# Altium integrated library ZH1.5.IntLib: 15 symbols
Pins are listed as number, name and electrical type; pins without a type are passive.

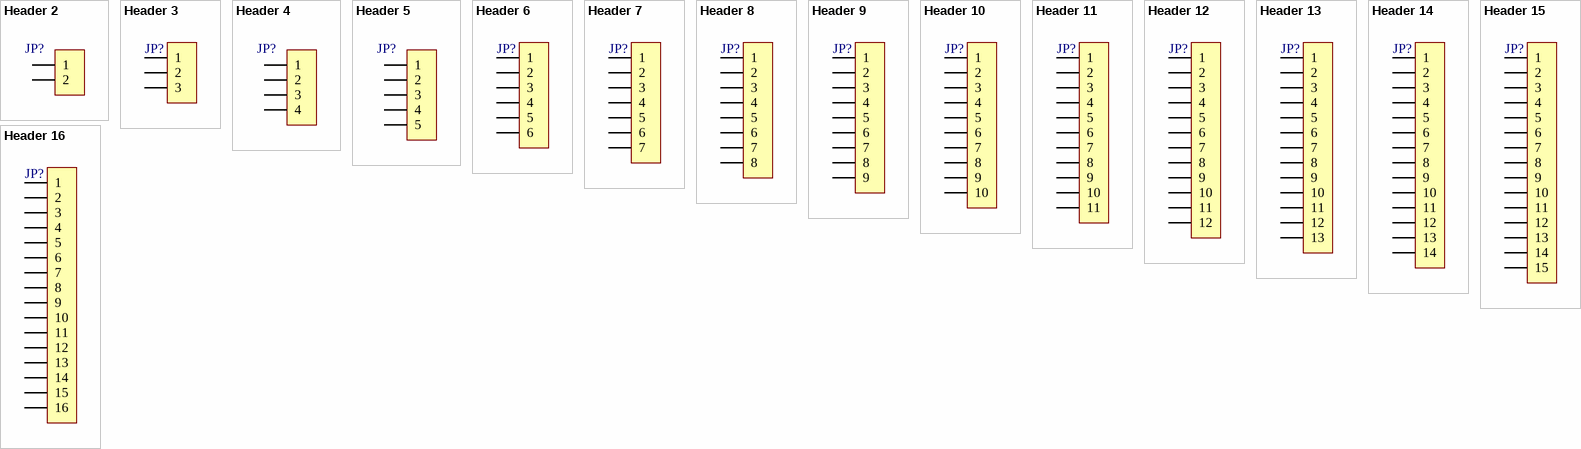
[diagram p0: symbols Header 2 to Header 16]

## Header 2
designator JP?, comment HDR-1X2  (value not drawn)
2P接插件; 版权归属: 源创客; BOM名称: 2P接插件; 学习资源: www.ooocke.com
footprint ZH1.5-WI-2P (长：4.5，宽：4.5，高：3.6)
footprint ZH1.5-LI-2P (长：4.5，宽：3.65，高：4.55)
footprint ZH1.5-WS-2P (Footprint not found)
footprint ZH1.5-LS-2P (Footprint not found)
pins: 1, 2

## Header 3
designator JP?, comment HDR-1X3  (value not drawn)
3P接插件; 版权归属: 源创客; BOM名称: 3P接插件; 学习资源: www.ooocke.com
footprint ZH1.5-WI-3P (长：6.0，宽：4.5，高：3.6)
footprint ZH1.5-LI-3P (长：6.0，宽：3.65，高：4.55)
footprint ZH1.5-WS-3P (Footprint not found)
footprint ZH1.5-LS-3P (Footprint not found)
pins: 1, 2, 3

## Header 4
designator JP?, comment HDR-1X4  (value not drawn)
4P接插件; 版权归属: 源创客; BOM名称: 4P接插件; 学习资源: www.ooocke.com
footprint ZH1.5-WI-4P (长：7.5，宽：4.5，高：3.6)
footprint ZH1.5-LI-4P (长：7.5，宽：3.65，高：4.55)
footprint ZH1.5-WS-4P (Footprint not found)
footprint ZH1.5-LS-4P (Footprint not found)
pins: 1, 2, 3, 4

## Header 5
designator JP?, comment HDR-1X5  (value not drawn)
5P接插件; 版权归属: 源创客; BOM名称: 5P接插件; 学习资源: www.ooocke.com
footprint ZH1.5-WI-5P (长：9.0，宽：4.5，高：3.6)
footprint ZH1.5-LI-5P (长：9.0，宽：3.65，高：4.55)
footprint ZH1.5-WS-5P (Footprint not found)
footprint ZH1.5-LS-5P (Footprint not found)
pins: 1, 2, 3, 4, 5

## Header 6
designator JP?, comment HDR-1X6  (value not drawn)
6P接插件; 版权归属: 源创客; BOM名称: 6P接插件; 学习资源: www.ooocke.com
footprint ZH1.5-WI-6P (长：10.5，宽：4.5，高：3.6)
footprint ZH1.5-LI-6P (长：10.5，宽：3.65，高：4.55)
footprint ZH1.5-WS-6P (Footprint not found)
footprint ZH1.5-LS-6P (Footprint not found)
pins: 1, 2, 3, 4, 5, 6

## Header 7
designator JP?, comment HDR-1X7  (value not drawn)
7P接插件; 版权归属: 源创客; BOM名称: 7P接插件; 学习资源: www.ooocke.com
footprint ZH1.5-WI-7P (长：12.0，宽：4.5，高：3.6)
footprint ZH1.5-LI-7P (长：12.0，宽：3.65，高：4.55)
footprint ZH1.5-WS-7P (Footprint not found)
footprint ZH1.5-LS-7P (Footprint not found)
pins: 1, 2, 3, 4, 5, 6, 7

## Header 8
designator JP?, comment HDR-1X8  (value not drawn)
8P接插件; 版权归属: 源创客; BOM名称: 8P接插件; 学习资源: www.ooocke.com
footprint ZH1.5-WI-8P (长：13.5，宽：4.5，高：3.6)
footprint ZH1.5-LI-8P (长：13.5，宽：3.65，高：4.55)
footprint ZH1.5-WS-8P (Footprint not found)
footprint ZH1.5-LS-8P (Footprint not found)
pins: 1, 2, 3, 4, 5, 6, 7, 8

## Header 9
designator JP?, comment HDR-1X9  (value not drawn)
9P接插件; 版权归属: 源创客; BOM名称: 9P接插件; 学习资源: www.ooocke.com
footprint ZH1.5-WI-9P (长：15.0，宽：4.5，高：3.6)
footprint ZH1.5-LI-9P (长：15.0，宽：3.65，高：4.55)
footprint ZH1.5-WS-9P (Footprint not found)
footprint ZH1.5-LS-9P (Footprint not found)
pins: 1, 2, 3, 4, 5, 6, 7, 8, 9

## Header 10
designator JP?, comment HDR-1X10  (value not drawn)
10P接插件; 版权归属: 源创客; BOM名称: 10P接插件; 学习资源: www.ooocke.com
footprint ZH1.5-WI-10P (长：16.5，宽：4.5，高：3.6)
footprint ZH1.5-LI-10P (长：16.5，宽：3.65，高：4.55)
footprint ZH1.5-WS-10P (Footprint not found)
footprint ZH1.5-LS-10P (Footprint not found)
pins: 1, 2, 3, 4, 5, 6, 7, 8, 9, 10

## Header 11
designator JP?, comment HDR-1X11  (value not drawn)
11P接插件; 版权归属: 源创客; BOM名称: 11P接插件; 学习资源: www.ooocke.com
footprint ZH1.5-WI-11P (长：18.0，宽：4.5，高：3.6)
footprint ZH1.5-LI-11P (长：18.0，宽：3.65，高：4.55)
footprint ZH1.5-WS-11P (Footprint not found)
footprint ZH1.5-LS-11P (Footprint not found)
pins: 1, 2, 3, 4, 5, 6, 7, 8, 9, 10, 11

## Header 12
designator JP?, comment HDR-1X12  (value not drawn)
12P接插件; 版权归属: 源创客; BOM名称: 12P接插件; 学习资源: www.ooocke.com
footprint ZH1.5-WI-12P (长：19.5，宽：4.5，高：3.6)
footprint ZH1.5-LI-12P (长：19.5，宽：3.65，高：4.55)
footprint ZH1.5-WS-12P (Footprint not found)
footprint ZH1.5-LS-12P (Footprint not found)
pins: 1, 2, 3, 4, 5, 6, 7, 8, 9, 10, 11, 12

## Header 13
designator JP?, comment HDR-1X13  (value not drawn)
13P接插件; 版权归属: 源创客; BOM名称: 13P接插件; 学习资源: www.ooocke.com
footprint ZH1.5-WS-13P (Footprint not found)
footprint ZH1.5-LS-13P (Footprint not found)
footprint ZH1.5-LI-13P (长：21.0，宽：3.65，高：4.55)
footprint ZH1.5-WI-13P (长：21.0，宽：4.5，高：3.6)
pins: 1, 2, 3, 4, 5, 6, 7, 8, 9, 10, 11, 12, 13

## Header 14
designator JP?, comment HDR-1X14  (value not drawn)
14P接插件; 版权归属: 源创客; BOM名称: 14P接插件; 学习资源: www.ooocke.com
footprint ZH1.5-WS-14P (Footprint not found)
footprint ZH1.5-LS-14P (Footprint not found)
footprint ZH1.5-LI-14P (长：22.5，宽：3.65，高：4.55)
footprint ZH1.5-WI-14P (长：22.5，宽：4.5，高：3.6)
pins: 1, 2, 3, 4, 5, 6, 7, 8, 9, 10, 11, 12, 13, 14

## Header 15
designator JP?, comment HDR-1X15  (value not drawn)
15P接插件; 版权归属: 源创客; BOM名称: 15P接插件; 学习资源: www.ooocke.com
footprint ZH1.5-WS-15P (Footprint not found)
footprint ZH1.5-LS-15P (Footprint not found)
footprint ZH1.5-LI-15P (长：24.0，宽：3.65，高：4.55)
footprint ZH1.5-WI-15P (长：24.0，宽：4.5，高：3.6)
pins: 1, 2, 3, 4, 5, 6, 7, 8, 9, 10, 11, 12, 13, 14, 15

## Header 16
designator JP?, comment HDR-1X16  (value not drawn)
16P接插件; 版权归属: 源创客; BOM名称: 16P接插件; 学习资源: www.ooocke.com
footprint ZH1.5-WS-16P (Footprint not found)
footprint ZH1.5-LS-16P (Footprint not found)
footprint ZH1.5-LI-16P (长：25.5，宽：3.65，高：4.55)
footprint ZH1.5-WI-16P (长：25.5，宽：4.5，高：3.6)
pins: 1, 2, 3, 4, 5, 6, 7, 8, 9, 10, 11, 12, 13, 14, 15, 16